# Altium footprint library Accelerometer.PcbLib: 2 footprints
Each footprint in its own frame and in the unit in brackets; x right, y up, seen from the top. Pads: shape width x height; smd on the part's side, far side on the other; paste and mask are expansions set on the pad; w line width, h text height; cw(c..) or ccw(c..) is an arc to the next point about the centre after c.
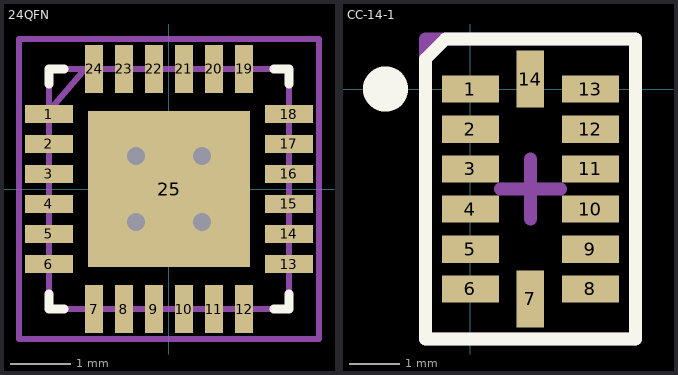
[diagram p0: the footprints below, top view; thin cyan lines are the x and y axes]

## 24QFN [mm]
pads (25):
  rect 0.8x0.3 smd mask+0.05: 1(-2,1.25) 2(-2,0.75) 3(-2,0.25) 4(-2,-0.25) 5(-2,-0.75) 6(-2,-1.25) 13(2,-1.25) 14(2,-0.75) 15(2,-0.25) 16(2,0.25) 17(2,0.75) 18(2,1.25)
  rect 0.3x0.8 smd mask+0.05: 7(-1.25,-2) 8(-0.75,-2) 9(-0.25,-2) 10(0.25,-2) 11(0.75,-2) 12(1.25,-2) 19(1.25,2) 20(0.75,2) 21(0.25,2) 22(-0.25,2) 23(-0.75,2) 24(-1.25,2)
  rect 2.7x2.6 smd mask+0.05: 25(0,0)
via 0.55,0.55 diameter 0.65 hole 0.3
via -0.55,-0.55 diameter 0.65 hole 0.3
via -0.55,0.55 diameter 0.65 hole 0.3
via 0.55,-0.55 diameter 0.65 hole 0.3
Top Overlay:
  lines w0.153: -2,-1.75 -2,-2 -1.75,-2 ; -2,1.75 -2,2 -1.75,2 ; 1.75,-2 2,-2 2,-1.75 ; 1.75,2 2,2 2,1.75
  text "." at -2.347,2.253 h0.8
Top Assembly:
  lines w0.1: -2,1.3 -1.4,2 ; -2,-2 2,-2 2,2 -2,2 -2,-2
  text "'.Designator'" at -1.847,2.42 h0.8
Mechanical 15:
  lines w0.1: -0.5,0 0.5,0 ; 0,-0.5 0,0.5 ; -2.5,-2.5 -2.5,2.5 2.5,2.5 2.5,-2.5 -2.5,-2.5
3D body "User Library-mpu-6050_qfn-24-1.STEP": height 0.88, standoff -0.02, extent -2.02,-2.02 2.02,2.02

## CC-14-1 [mm]
pads (14):
  rect 1.145x0.55 smd: 1(0,0) 2(0,-0.8) 3(0,-1.6) 4(0,-2.4) 5(0,-3.2) 6(0,-4) 8(2.4,-4) 9(2.4,-3.2) 10(2.4,-2.4) 11(2.4,-1.6) 12(2.4,-0.8) 13(2.4,0)
  rect 0.55x1.145 smd: 7(1.2,-4.2) 14(1.2,0.2)
Top Overlay:
  circle w0.7: c-1.7,0 r0.1
  lines w0.254: -0.9,-5 -0.9,0.6 -0.5,1 3.3,1 3.3,-5 -0.9,-5
Top Assembly:
  lines w0.254: -0.9,-5 -0.9,1 3.3,1 3.3,-5 -0.9,-5
Mechanical 15:
  lines w0.254: 0.6,-2 1.8,-2 ; 1.2,-2.6 1.2,-1.4 ; -0.9,-5 -0.9,1 3.3,1 3.3,-5 -0.9,-5
3D body "User Library-ADXL345.STEP": height 1, standoff 0, extent -0.3,-4.5 2.7,0.5